# Altium integrated library Renesas Microprocessor SuperH.IntLib: 433 symbols (part 5 of 62)
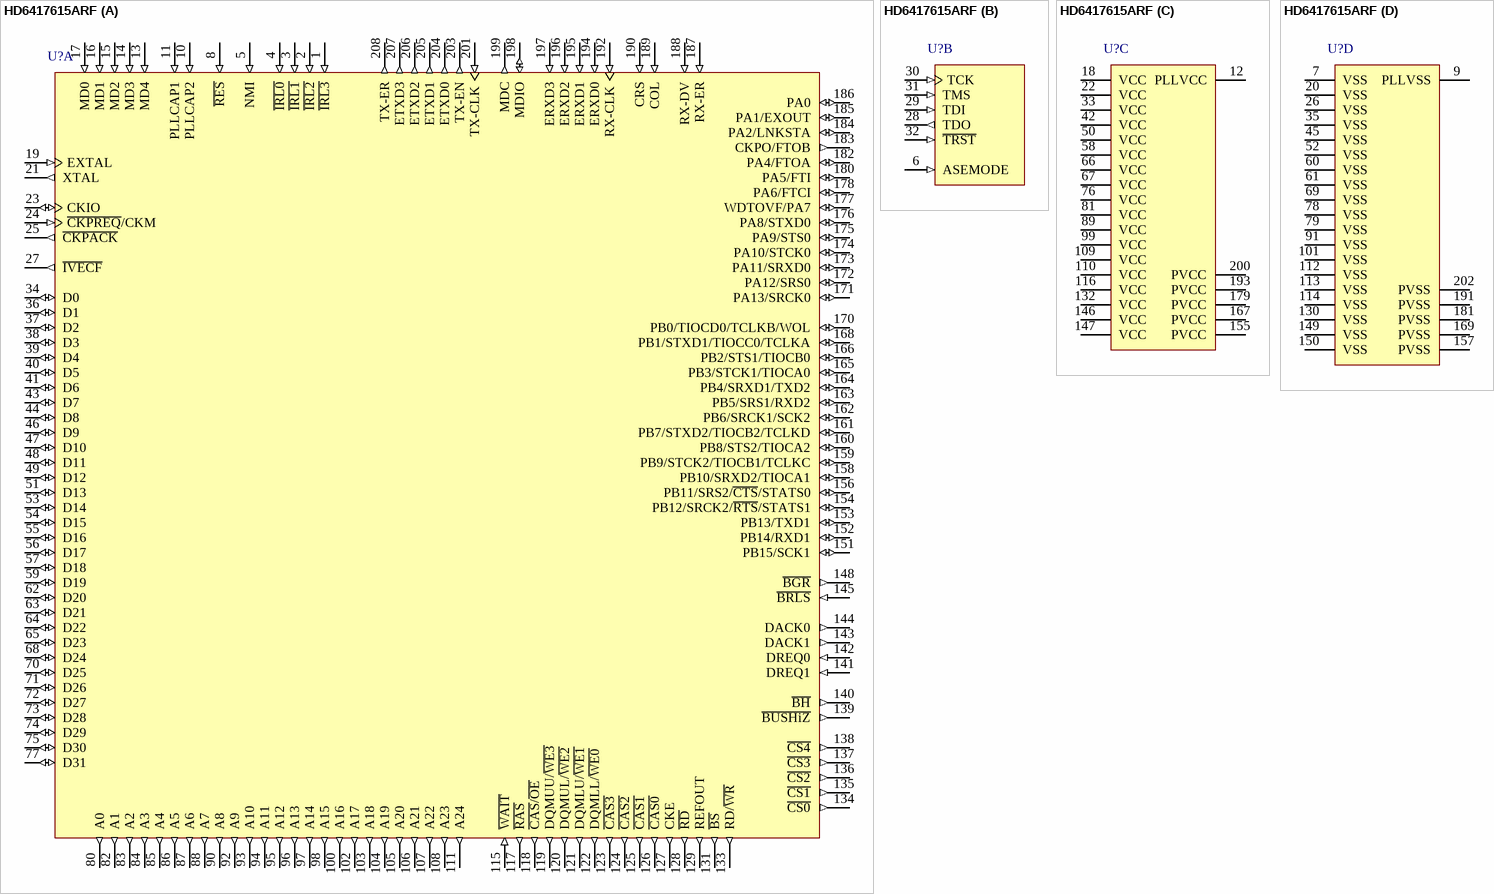
[diagram p381: symbol HD6417615ARF]

## HD6417615ARF
designator U?
32-Bit RISC Microcomputer, SH-Ether Series, SH2-DSP core, 62.5MHz, 8K RAM, 208-pin PLQFP, -20 to 75°C; Published: 28-Aug-2009; DatasheetVersion: Rev.2.00, Mar-2005; PackageVersion: Sep-2005; PackageReference: PLQP0208KA-A; Publisher: Altium Limited; PackageDescription: 208-Pin Plastic Low Profile QFP, 28 x 28 x 1.4 mm Body, 0.5 mm Pitch; Supplier 1: Digi-Key; Supplier Part Number 1: HD6417615ARF-ND; Code_JEITA: P-LQFP208-28x28-0.50; ComponentLink1Description: Manufacturer Link; ComponentLink1URL: http://www.renesas.com/fmwk.jsp?cnt=sh7615_root.jsp&fp=/products/mpumcu/superh_family/shether_series/sh7615_group/; ComponentLink2Description: Datasheet; ComponentLink2URL: http://documentation.renesas.com/eng/products/mpumcu/rej09b0157_sh7615.pdf; ComponentLink3Description: Packaging Specification; ComponentLink3URL: http://sg.renesas.com/media/products/common_info/package/pdf/ic/code/plqp0208ka_a.pdf
footprint PLQP0208KA-A_N (Shrink QFP, 208-Leads, Body 28x28mm, Pitch 0.5mm, IPC Medium Density)
footprint PLQP0208KA-A_L (Shrink QFP, 208-Leads, Body 28x28mm, Pitch 0.5mm, IPC High Density)
footprint PLQP0208KA-A_M (Shrink QFP, 208-Leads, Body 28x28mm, Pitch 0.5mm, IPC Low Density)
part A pins: 1 ~{IRL3} (in), 2 ~{IRL2} (in), 3 ~{IRL1} (in), 4 ~{IRL0} (in), 5 NMI (in), 8 ~{RES} (in), 10 PLLCAP2 (in), 11 PLLCAP1 (in), 13 MD4 (in), 14 MD3 (in), 15 MD2 (in), 16 MD1 (in), 17 MD0 (in), 19 EXTAL (in), 21 XTAL (out), 23 CKIO (io), 24 ~{CKPREQ}/CKM (in), 25 ~{CKPACK} (out), 27 ~{IVECF} (out), 34 D0 (io), 36 D1 (io), 37 D2 (io), 38 D3 (io), 39 D4 (io), 40 D5 (io), 41 D6 (io), 43 D7 (io), 44 D8 (io), 46 D9 (io), 47 D10 (io), 48 D11 (io), 49 D12 (io), 51 D13 (io), 53 D14 (io), 54 D15 (io), 55 D16 (io), 56 D17 (io), 57 D18 (io), 59 D19 (io), 62 D20 (io), 63 D21 (io), 64 D22 (io), 65 D23 (io), 68 D24 (io), 70 D25 (io), 71 D26 (io), 72 D27 (io), 73 D28 (io), 74 D29 (io), 75 D30 (io), 77 D31 (io), 80 A0 (out), 82 A1 (out), 83 A2 (out), 84 A3 (out), 85 A4 (out), 86 A5 (out), 87 A6 (out), 88 A7 (out), 90 A8 (out), 92 A9 (out), 93 A10 (out), 94 A11 (out), 95 A12 (out), 96 A13 (out), 97 A14 (out), 98 A15 (out), 100 A16 (out), 102 A17 (out), 103 A18 (out), 104 A19 (out), 105 A20 (out), 106 A21 (out), 107 A22 (out), 108 A23 (out), 111 A24 (out), 115 ~{WAIT} (in), 117 ~{RAS} (out), 118 ~{CAS}/~{OE} (out), 119 DQMUU/~{WE3} (out), 120 DQMUL/~{WE2} (out), 121 DQMLU/~{WE1} (out), 122 DQMLL/~{WE0} (out), 123 ~{CAS3} (out), 124 ~{CAS2} (out), 125 ~{CAS1} (out), 126 ~{CAS0} (out), 127 CKE (out), 128 ~{RD} (out), 129 REFOUT (out), 131 ~{BS} (out), 133 RD/~{WR} (out), 134 ~{CS0} (out), 135 ~{CS1} (out), 136 ~{CS2} (out), 137 ~{CS3} (out), 138 ~{CS4} (out), 139 ~{BUSHiZ} (out), 140 ~{BH} (out), 141 DREQ1 (in), 142 DREQ0 (in), 143 DACK1 (out), 144 DACK0 (out), 145 ~{BRLS} (in), 148 ~{BGR} (out), 151 PB15/SCK1 (io), 152 PB14/RXD1 (io), 153 PB13/TXD1 (io), 154 PB12/SRCK2/~{RTS}/STATS1 (io), 156 PB11/SRS2/~{CTS}/STATS0 (io), 158 PB10/SRXD2/TIOCA1 (io), 159 PB9/STCK2/TIOCB1/TCLKC (io), 160 PB8/STS2/TIOCA2 (io), 161 PB7/STXD2/TIOCB2/TCLKD (io), 162 PB6/SRCK1/SCK2 (io), 163 PB5/SRS1/RXD2 (io), 164 PB4/SRXD1/TXD2 (io), 165 PB3/STCK1/TIOCA0 (io), 166 PB2/STS1/TIOCB0 (io), 168 PB1/STXD1/TIOCC0/TCLKA (io), 170 PB0/TIOCD0/TCLKB/WOL (io), 171 PA13/SRCK0 (io), 172 PA12/SRS0 (io), 173 PA11/SRXD0 (io), 174 PA10/STCK0 (io), 175 PA9/STS0 (io), 176 PA8/STXD0 (io), 177 WDTOVF/PA7 (io), 178 PA6/FTCI (io), 180 PA5/FTI (io), 182 PA4/FTOA (io), 183 CKPO/FTOB (out), 184 PA2/LNKSTA (io), 185 PA1/EXOUT (io), 186 PA0 (io), 187 RX-ER (in), 188 RX-DV (in), 189 COL (in), 190 CRS (in), 192 RX-CLK (in), 194 ERXD0 (in), 195 ERXD1 (in), 196 ERXD2 (in), 197 ERXD3 (in), 198 MDIO (io), 199 MDC (out), 201 TX-CLK (in), 203 TX-EN (out), 204 ETXD0 (out), 205 ETXD1 (out), 206 ETXD2 (out), 207 ETXD3 (out), 208 TX-ER (out)
part B pins: 6 ASEMODE (in), 28 TDO (out), 29 TDI (in), 30 TCK (in), 31 TMS (in), 32 ~{TRST} (in)
part C pins: 12 PLLVCC (power), 18 VCC (power), 22 VCC (power), 33 VCC (power), 42 VCC (power), 50 VCC (power), 58 VCC (power), 66 VCC (power), 67 VCC (power), 76 VCC (power), 81 VCC (power), 89 VCC (power), 99 VCC (power), 109 VCC (power), 110 VCC (power), 116 VCC (power), 132 VCC (power), 146 VCC (power), 147 VCC (power), 155 PVCC (power), 167 PVCC (power), 179 PVCC (power), 193 PVCC (power), 200 PVCC (power)
part D pins: 7 VSS (power), 9 PLLVSS (power), 20 VSS (power), 26 VSS (power), 35 VSS (power), 45 VSS (power), 52 VSS (power), 60 VSS (power), 61 VSS (power), 69 VSS (power), 78 VSS (power), 79 VSS (power), 91 VSS (power), 101 VSS (power), 112 VSS (power), 113 VSS (power), 114 VSS (power), 130 VSS (power), 149 VSS (power), 150 VSS (power), 157 PVSS (power), 169 PVSS (power), 181 PVSS (power), 191 PVSS (power), 202 PVSS (power)

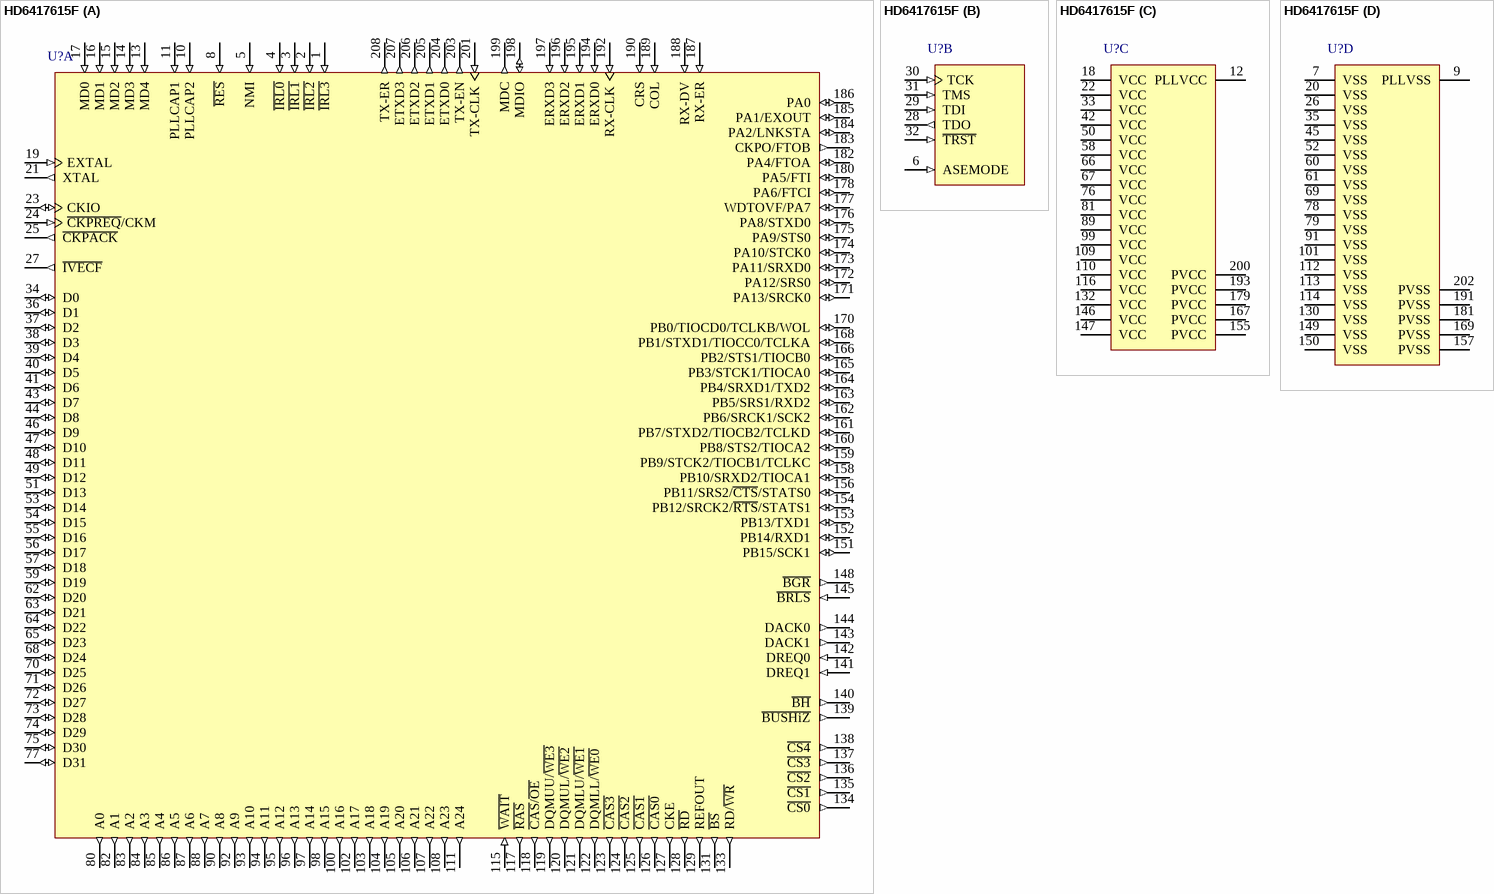
[diagram p18: symbol HD6417615F]

## HD6417615F
designator U?
32-Bit RISC Microcomputer, SH-Ether Series, SH2-DSP core, 62.5MHz, 8K RAM, 208-pin PLQFP, -20 to 75°C; Published: 28-Aug-2009; DatasheetVersion: Rev.2.00, Mar-2005; PackageVersion: Sep-2005; PackageReference: PLQP0208KA-A; Publisher: Altium Limited; PackageDescription: 208-Pin Plastic Low Profile QFP, 28 x 28 x 1.4 mm Body, 0.5 mm Pitch; Code_JEITA: P-LQFP208-28x28-0.50; ComponentLink1Description: Manufacturer Link; ComponentLink1URL: http://www.renesas.com/fmwk.jsp?cnt=sh7615_root.jsp&fp=/products/mpumcu/superh_family/shether_series/sh7615_group/; ComponentLink2Description: Datasheet; ComponentLink2URL: http://documentation.renesas.com/eng/products/mpumcu/rej09b0157_sh7615.pdf; ComponentLink3Description: Packaging Specification; ComponentLink3URL: http://sg.renesas.com/media/products/common_info/package/pdf/ic/code/plqp0208ka_a.pdf
footprint PLQP0208KA-A_N (Shrink QFP, 208-Leads, Body 28x28mm, Pitch 0.5mm, IPC Medium Density)
footprint PLQP0208KA-A_L (Shrink QFP, 208-Leads, Body 28x28mm, Pitch 0.5mm, IPC High Density)
footprint PLQP0208KA-A_M (Shrink QFP, 208-Leads, Body 28x28mm, Pitch 0.5mm, IPC Low Density)
part A pins: 1 ~{IRL3} (in), 2 ~{IRL2} (in), 3 ~{IRL1} (in), 4 ~{IRL0} (in), 5 NMI (in), 8 ~{RES} (in), 10 PLLCAP2 (in), 11 PLLCAP1 (in), 13 MD4 (in), 14 MD3 (in), 15 MD2 (in), 16 MD1 (in), 17 MD0 (in), 19 EXTAL (in), 21 XTAL (out), 23 CKIO (io), 24 ~{CKPREQ}/CKM (in), 25 ~{CKPACK} (out), 27 ~{IVECF} (out), 34 D0 (io), 36 D1 (io), 37 D2 (io), 38 D3 (io), 39 D4 (io), 40 D5 (io), 41 D6 (io), 43 D7 (io), 44 D8 (io), 46 D9 (io), 47 D10 (io), 48 D11 (io), 49 D12 (io), 51 D13 (io), 53 D14 (io), 54 D15 (io), 55 D16 (io), 56 D17 (io), 57 D18 (io), 59 D19 (io), 62 D20 (io), 63 D21 (io), 64 D22 (io), 65 D23 (io), 68 D24 (io), 70 D25 (io), 71 D26 (io), 72 D27 (io), 73 D28 (io), 74 D29 (io), 75 D30 (io), 77 D31 (io), 80 A0 (out), 82 A1 (out), 83 A2 (out), 84 A3 (out), 85 A4 (out), 86 A5 (out), 87 A6 (out), 88 A7 (out), 90 A8 (out), 92 A9 (out), 93 A10 (out), 94 A11 (out), 95 A12 (out), 96 A13 (out), 97 A14 (out), 98 A15 (out), 100 A16 (out), 102 A17 (out), 103 A18 (out), 104 A19 (out), 105 A20 (out), 106 A21 (out), 107 A22 (out), 108 A23 (out), 111 A24 (out), 115 ~{WAIT} (in), 117 ~{RAS} (out), 118 ~{CAS}/~{OE} (out), 119 DQMUU/~{WE3} (out), 120 DQMUL/~{WE2} (out), 121 DQMLU/~{WE1} (out), 122 DQMLL/~{WE0} (out), 123 ~{CAS3} (out), 124 ~{CAS2} (out), 125 ~{CAS1} (out), 126 ~{CAS0} (out), 127 CKE (out), 128 ~{RD} (out), 129 REFOUT (out), 131 ~{BS} (out), 133 RD/~{WR} (out), 134 ~{CS0} (out), 135 ~{CS1} (out), 136 ~{CS2} (out), 137 ~{CS3} (out), 138 ~{CS4} (out), 139 ~{BUSHiZ} (out), 140 ~{BH} (out), 141 DREQ1 (in), 142 DREQ0 (in), 143 DACK1 (out), 144 DACK0 (out), 145 ~{BRLS} (in), 148 ~{BGR} (out), 151 PB15/SCK1 (io), 152 PB14/RXD1 (io), 153 PB13/TXD1 (io), 154 PB12/SRCK2/~{RTS}/STATS1 (io), 156 PB11/SRS2/~{CTS}/STATS0 (io), 158 PB10/SRXD2/TIOCA1 (io), 159 PB9/STCK2/TIOCB1/TCLKC (io), 160 PB8/STS2/TIOCA2 (io), 161 PB7/STXD2/TIOCB2/TCLKD (io), 162 PB6/SRCK1/SCK2 (io), 163 PB5/SRS1/RXD2 (io), 164 PB4/SRXD1/TXD2 (io), 165 PB3/STCK1/TIOCA0 (io), 166 PB2/STS1/TIOCB0 (io), 168 PB1/STXD1/TIOCC0/TCLKA (io), 170 PB0/TIOCD0/TCLKB/WOL (io), 171 PA13/SRCK0 (io), 172 PA12/SRS0 (io), 173 PA11/SRXD0 (io), 174 PA10/STCK0 (io), 175 PA9/STS0 (io), 176 PA8/STXD0 (io), 177 WDTOVF/PA7 (io), 178 PA6/FTCI (io), 180 PA5/FTI (io), 182 PA4/FTOA (io), 183 CKPO/FTOB (out), 184 PA2/LNKSTA (io), 185 PA1/EXOUT (io), 186 PA0 (io), 187 RX-ER (in), 188 RX-DV (in), 189 COL (in), 190 CRS (in), 192 RX-CLK (in), 194 ERXD0 (in), 195 ERXD1 (in), 196 ERXD2 (in), 197 ERXD3 (in), 198 MDIO (io), 199 MDC (out), 201 TX-CLK (in), 203 TX-EN (out), 204 ETXD0 (out), 205 ETXD1 (out), 206 ETXD2 (out), 207 ETXD3 (out), 208 TX-ER (out)
part B pins: 6 ASEMODE (in), 28 TDO (out), 29 TDI (in), 30 TCK (in), 31 TMS (in), 32 ~{TRST} (in)
part C pins: 12 PLLVCC (power), 18 VCC (power), 22 VCC (power), 33 VCC (power), 42 VCC (power), 50 VCC (power), 58 VCC (power), 66 VCC (power), 67 VCC (power), 76 VCC (power), 81 VCC (power), 89 VCC (power), 99 VCC (power), 109 VCC (power), 110 VCC (power), 116 VCC (power), 132 VCC (power), 146 VCC (power), 147 VCC (power), 155 PVCC (power), 167 PVCC (power), 179 PVCC (power), 193 PVCC (power), 200 PVCC (power)
part D pins: 7 VSS (power), 9 PLLVSS (power), 20 VSS (power), 26 VSS (power), 35 VSS (power), 45 VSS (power), 52 VSS (power), 60 VSS (power), 61 VSS (power), 69 VSS (power), 78 VSS (power), 79 VSS (power), 91 VSS (power), 101 VSS (power), 112 VSS (power), 113 VSS (power), 114 VSS (power), 130 VSS (power), 149 VSS (power), 150 VSS (power), 157 PVSS (power), 169 PVSS (power), 181 PVSS (power), 191 PVSS (power), 202 PVSS (power)

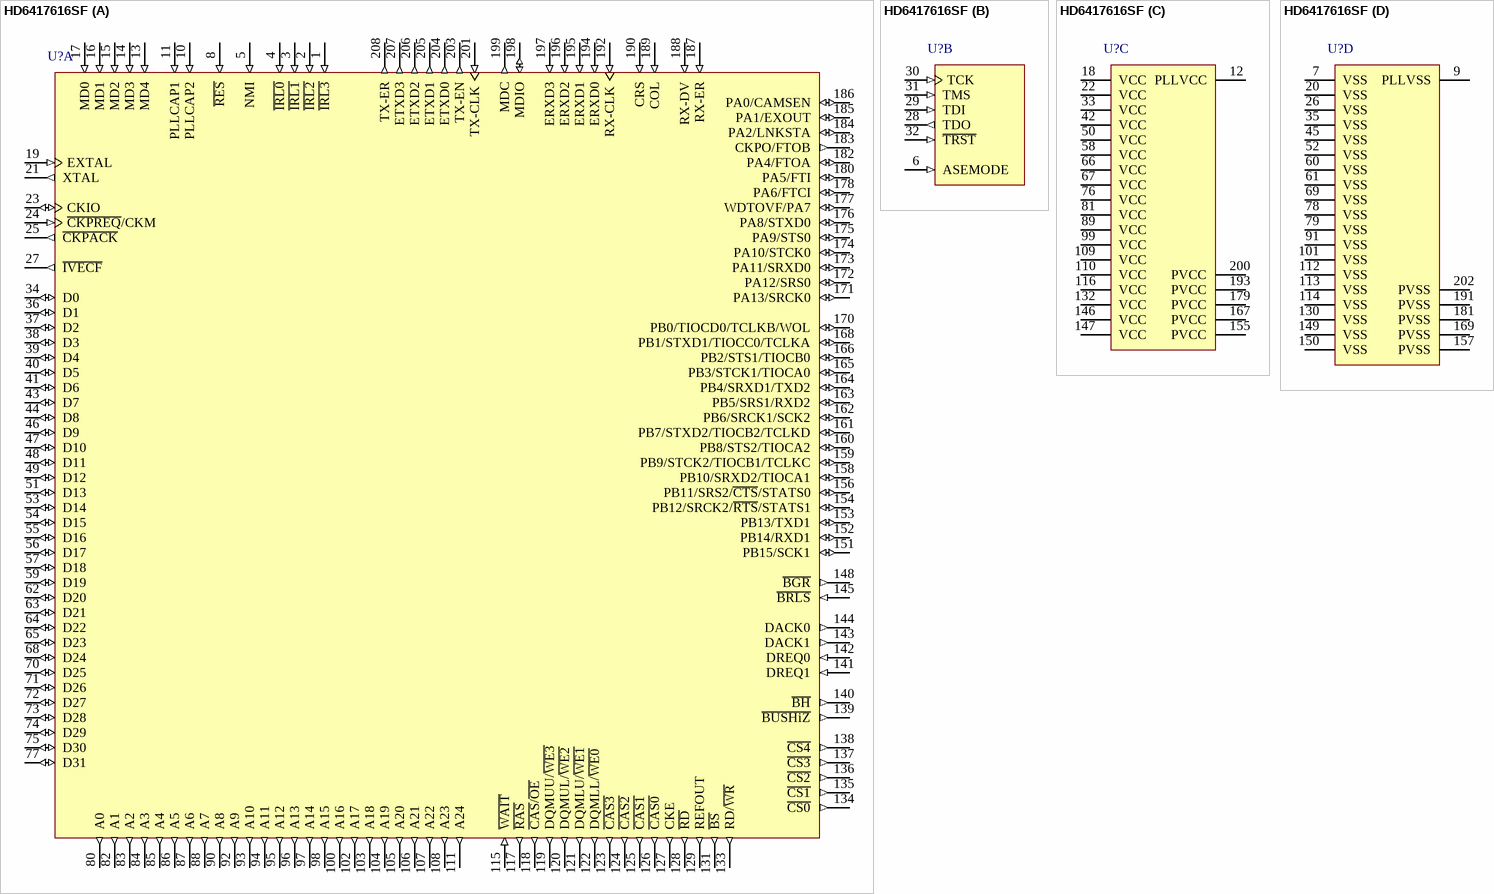
[diagram p19: symbol HD6417616SF]